# Altium footprint library HyTechDevices.PCBLIB: 209 footprints (part 7 of 14)
Each footprint in its own frame and in the unit in brackets; x right, y up, seen from the top. Pads: shape width x height; smd on the part's side, far side on the other; paste and mask are expansions set on the pad; w line width, h text height; cw(c..) or ccw(c..) is an arc to the next point about the centre after c.
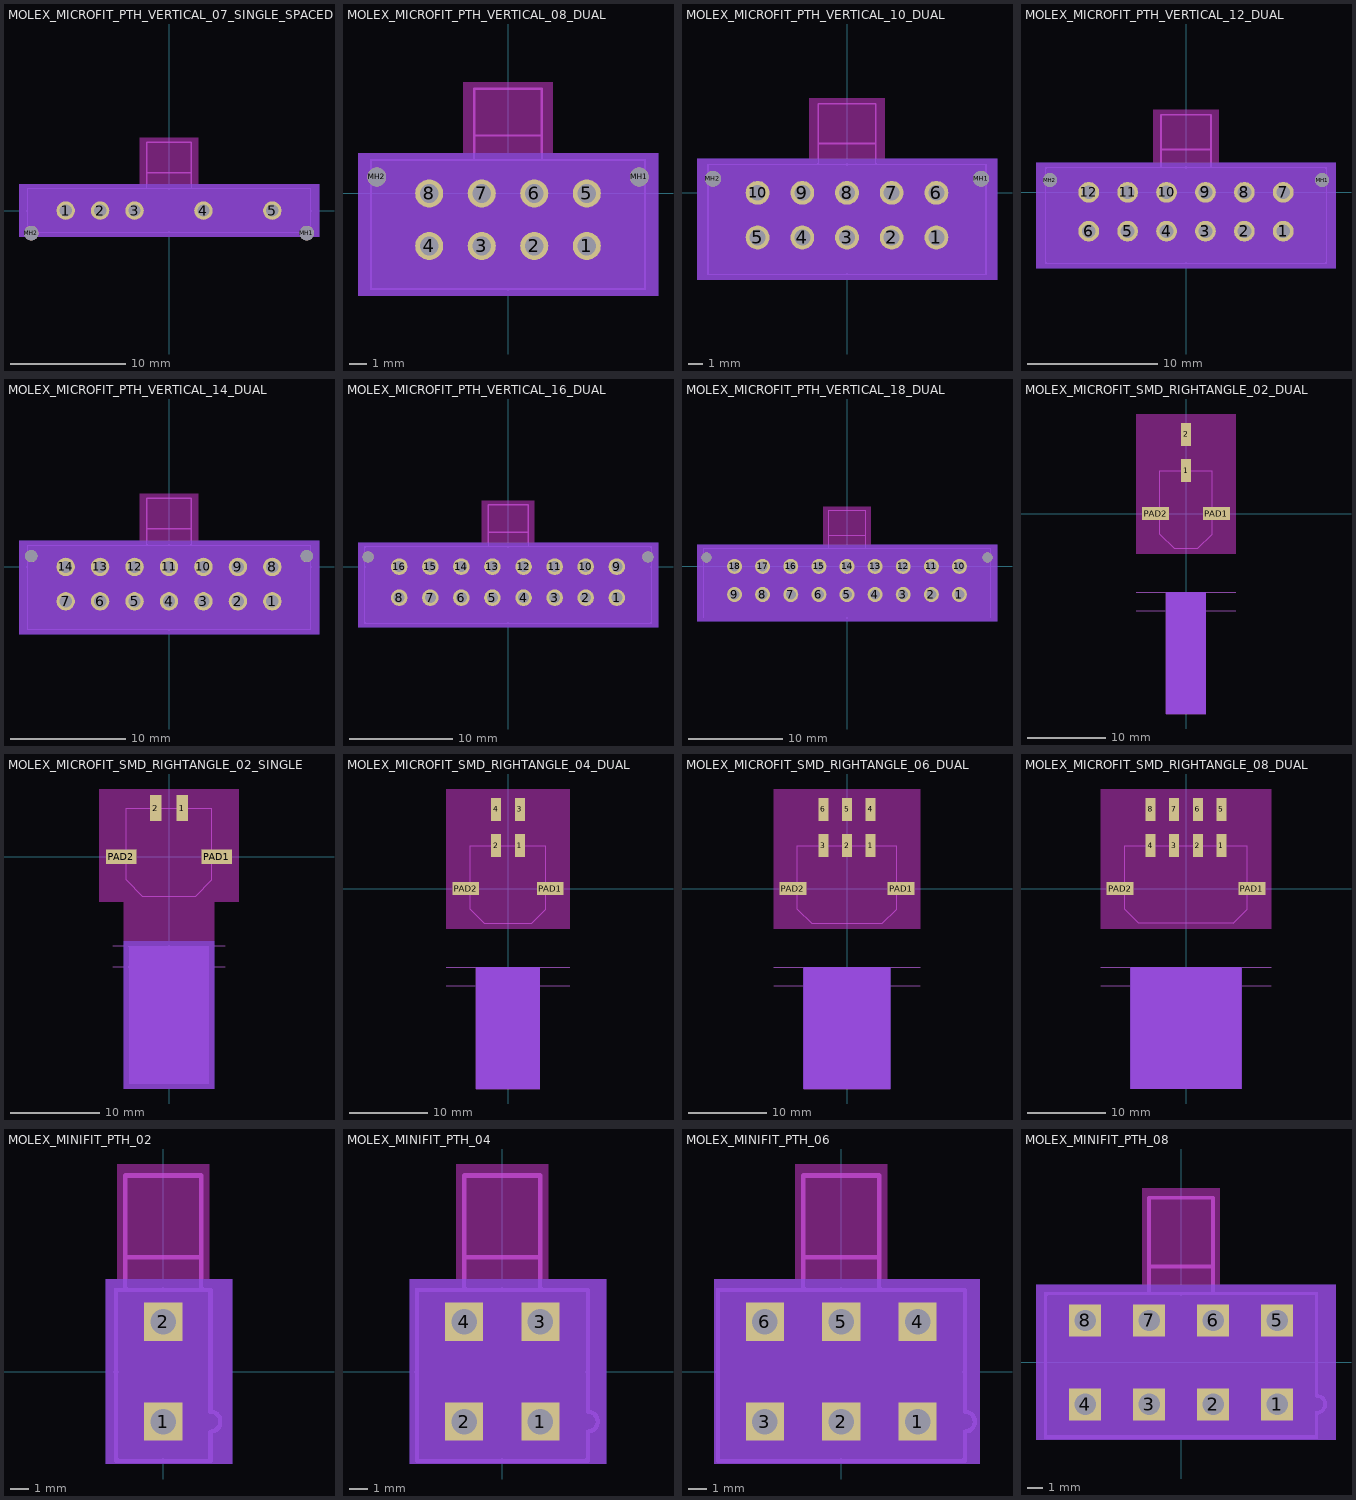
[diagram p6: the footprints below, top view; thin cyan lines are the x and y axes]

## MOLEX_MICROFIT_PTH_VERTICAL_07_SINGLE_SPACED [mil]
pads (7):
  round 63 hole 42: 1(-354,0) 2(-236,0) 3(-118,0) 4(118,0) 5(354,0)
  round 50 hole 50 unplated: MH1(472.5,-77) MH2(-472.5,-77)
Top keep-out:
  region: -100,90 -100,250 100,250 100,90
  region: -514,-90 -514,90 514,90 514,-90
Bottom keep-out:
  region: -514,-90 -514,90 514,90 514,-90
tPlace:
  lines w5: -76,75 -76,130 ; -76,75 -485,75 -485,-75 485,-75 485,75 76,75 ; -76,75 76,75 ; -76,130 -76,235 76,235 76,130 ; -76,130 76,130 ; 76,75 76,130

## MOLEX_MICROFIT_PTH_VERTICAL_08_DUAL [mil]
pads (10):
  round 63 hole 42: 1(177,-118) 2(59,-118) 3(-59,-118) 4(-177,-118) 5(177,0) 6(59,0) 7(-59,0) 8(-177,0)
  round 42 hole 42 unplated: MH1(295,37) MH2(-295,37)
Top keep-out:
  region: -337,-230 -337,90 337,90 337,-230
  region: -100,90 -100,250 100,250 100,90
Bottom keep-out:
  region: -337,-230 -337,90 337,90 337,-230
tPlace:
  lines w5: -76,75 76,75 ; -76,75 -308,75 -308,-215 308,-215 308,75 76,75 ; -76,75 -76,130 ; -76,130 76,130 ; -76,130 -76,235 76,235 76,130 ; 76,75 76,130

## MOLEX_MICROFIT_PTH_VERTICAL_10_DUAL [mil]
pads (12):
  round 63 hole 42: 1(236,-118) 2(118,-118) 3(0,-118) 4(-118,-118) 5(-236,-118) 6(236,0) 7(118,0) 8(0,0) 9(-118,0) 10(-236,0)
  round 42 hole 42 unplated: MH1(354,37) MH2(-354,37)
Top keep-out:
  region: -396,-230 -396,90 396,90 396,-230
  region: -100,90 -100,250 100,250 100,90
Bottom keep-out:
  region: -396,-230 -396,90 396,90 396,-230
tPlace:
  lines w5: -76,75 76,75 ; -76,75 -367,75 -367,-215 367,-215 367,75 76,75 ; -76,75 -76,130 ; -76,130 76,130 ; -76,130 -76,235 76,235 76,130 ; 76,75 76,130

## MOLEX_MICROFIT_PTH_VERTICAL_12_DUAL [mil]
pads (14):
  round 63 hole 42: 1(295,-118) 2(177,-118) 3(59,-118) 4(-59,-118) 5(-177,-118) 6(-295,-118) 7(295,0) 8(177,0) 9(59,0) 10(-59,0) 11(-177,0) 12(-295,0)
  round 42 hole 42 unplated: MH1(413,37) MH2(-413,37)
Top keep-out:
  region: -455,-230 -455,90 455,90 455,-230
  region: -100,90 -100,250 100,250 100,90
Bottom keep-out:
  region: -455,-230 -455,90 455,90 455,-230
tPlace:
  lines w5: -76,75 76,75 ; -76,75 -426,75 -426,-215 426,-215 426,75 76,75 ; -76,75 -76,130 ; -76,130 76,130 ; -76,130 -76,235 76,235 76,130 ; 76,75 76,130

## MOLEX_MICROFIT_PTH_VERTICAL_14_DUAL [mil]
pads (16):
  round 63 hole 42: 1(354,-118) 2(236,-118) 3(118,-118) 4(0,-118) 5(-118,-118) 6(-236,-118) 7(-354,-118) 8(354,0) 9(236,0) 10(118,0) 11(0,0) 12(-118,0) 13(-236,0) 14(-354,0)
  round 42 hole 42 unplated: MH1(472,37) MH2(-472,37)
Top keep-out:
  region: -514,-230 -514,90 514,90 514,-230
  region: -100,90 -100,250 100,250 100,90
Bottom keep-out:
  region: -514,-230 -514,90 514,90 514,-230
tPlace:
  lines w5: -76,75 76,75 ; -76,75 -485,75 -485,-215 485,-215 485,75 76,75 ; -76,75 -76,130 ; -76,130 76,130 ; -76,130 -76,235 76,235 76,130 ; 76,75 76,130

## MOLEX_MICROFIT_PTH_VERTICAL_16_DUAL [mil]
pads (18):
  round 63 hole 42: 1(413.39,-118.11) 2(295.28,-118.11) 3(177.17,-118.11) 4(59.06,-118.11) 5(-59.06,-118.11) 6(-177.17,-118.11) 7(-295.28,-118.11) 8(-413.39,-118.11) 9(413.39,0) 10(295.28,0) 11(177.17,0) 12(59.06,0) 13(-59.06,0) 14(-177.17,0) 15(-295.28,0) 16(-413.39,0)
  round 42 hole 42 unplated: MH1(531.5,37.01) MH2(-531.5,37.01)
Top keep-out:
  region: -100,90 -100,250 100,250 100,90
  region: -570,-230 -570,90 570,90 570,-230
Bottom keep-out:
  region: -570,-230 -570,90 570,90 570,-230
tPlace:
  lines w5: -76,75 76,75 ; -76,75 -544.06,75 -544.06,-215 544.06,-215 544.06,75 76,75 ; -76,75 -76,130 ; -76,130 76,130 ; -76,130 -76,235 76,235 76,130 ; 76,75 76,130

## MOLEX_MICROFIT_PTH_VERTICAL_18_DUAL [mil]
pads (20):
  round 63 hole 42: 1(472.44,-118.11) 2(354.33,-118.11) 3(236.22,-118.11) 4(118.11,-118.11) 5(0,-118.11) 6(-118.11,-118.11) 7(-236.22,-118.11) 8(-354.33,-118.11) 9(-472.44,-118.11) 10(472.44,0) 11(354.33,0) 12(236.22,0) 13(118.11,0) 14(0,0) 15(-118.11,0) 16(-236.22,0) 17(-354.33,0) 18(-472.44,0)
  round 42 hole 42 unplated: MH1(590.55,37.01) MH2(-590.55,37.01)
Top keep-out:
  region: -100,90 -100,250 100,250 100,90
  region: -630,-230 -630,90 630,90 630,-230
Bottom keep-out:
  region: -630,-230 -630,90 630,90 630,-230
tPlace:
  lines w5: -76,75 76,75 ; -76,75 -603.11,75 -603.11,-215 603.11,-215 603.11,75 76,75 ; -76,75 -76,130 ; -76,130 76,130 ; -76,130 -76,235 76,235 76,130 ; 76,75 76,130

## MOLEX_MICROFIT_SMD_RIGHTANGLE_02_DUAL [mil]
pads (4):
  rect 50x115 smd: 1(0,215.5) 2(0,397.5)
  rect 135x65 smd: PAD1(153,0) PAD2(-153,0)
Top keep-out:
  region: -100,-1005 -100,-395 100,-395 100,-1005
  region: 85.5,71 85.5,134 181.5,134 181.5,71
  region: -181.5,71 -181.5,134 -85.5,134 -85.5,71
  region: -250,-200 -250,500 250,500 250,-200
  region: -181.5,71 -181.5,134 -85.5,134 -85.5,71
  region: 85.5,71 85.5,134 181.5,134 181.5,71
Bottom keep-out:
  region: -100,-1005 -100,-395 100,-395 100,-1005
Dimension:
  region: 100,-1005 -100,-1005 -100,-395 100,-395
Milling:
  lines w0: -100,-1005 -100,-395 100,-395 100,-1005 -100,-1005
tDocu:
  lines w5: -250,-487 250,-487 ; -250,-395 250,-395
tPlace:
  lines w5: -131,-102.5 -59,-174.5 59,-174.5 131,-102.5 131,215.5 -131,215.5 -131,-102.5

## MOLEX_MICROFIT_SMD_RIGHTANGLE_02_SINGLE [mil]
pads (4):
  rect 50x115 smd: 1(59,215.5) 2(-59,215.5)
  rect 135x65 smd: PAD1(211.5,0) PAD2(-211.5,0)
Top keep-out:
  region: 124,71 124,134 220,134 220,71
  region: -220,71 -220,134 -124,134 -124,71
  region: -309,-200 -309,300 309,300 309,-200
  region: -220,71 -220,134 -124,134 -124,71
  region: 124,71 124,134 220,134 220,71
  region: -200,-1030 -200,-200 200,-200 200,-1030
Bottom keep-out:
  region: -200,-1030 -200,-375 200,-375 200,-1030
Dimension:
  region: 176,-1005 -176,-1005 -176,-395 176,-395
Milling:
  lines w0: -176,-1005 176,-1005 176,-395 -176,-395 -176,-1005
tDocu:
  lines w5: -250,-487 250,-487 ; -250,-395 250,-395
tPlace:
  lines w5: -190,-102.5 -190,215.5 190,215.5 190,-102.5 118,-174.5 -118,-174.5 -190,-102.5

## MOLEX_MICROFIT_SMD_RIGHTANGLE_04_DUAL [mil]
pads (6):
  rect 50x115 smd: 1(59.06,215.5) 2(-59.06,215.5) 3(59.06,397.5) 4(-59.06,397.5)
  rect 135x65 smd: PAD1(212.06,0) PAD2(-212.06,0)
Top keep-out:
  region: 144.56,71 144.56,134 240.56,134 240.56,71
  region: -240.56,71 -240.56,134 -144.56,134 -144.56,71
  region: -309.06,-200 -309.06,500 309.06,500 309.06,-200
  region: -240.56,71 -240.56,134 -144.56,134 -144.56,71
  region: 144.56,71 144.56,134 240.56,134 240.56,71
Bottom keep-out:
  region: -159.06,-1005 -159.06,-395 159.06,-395 159.06,-1005
Dimension:
  region: 159.06,-1005 -159.06,-1005 -159.06,-395 159.06,-395
Milling:
  lines w0: -159.06,-1005 159.06,-1005 159.06,-395 -159.06,-395 -159.06,-1005
tDocu:
  lines w5: -309.06,-487 309.06,-487 ; -309.06,-395 309.06,-395
tPlace:
  lines w5: -190.06,-102.5 -190.06,215.5 190.06,215.5 190.06,-102.5 118.06,-174.5 -118.06,-174.5 -190.06,-102.5
3D body "43045-0411.stp": height 345.16, standoff -0.12, extent -273.7,-180.08 263.7,426.13

## MOLEX_MICROFIT_SMD_RIGHTANGLE_06_DUAL [mil]
pads (8):
  rect 50x115 smd: 1(118.11,215.5) 2(0,215.5) 3(-118.11,215.5) 4(118.11,397.5) 5(0,397.5) 6(-118.11,397.5)
  rect 135x65 smd: PAD1(271.11,0) PAD2(-271.11,0)
Top keep-out:
  region: 203.61,71 203.61,134 299.61,134 299.61,71
  region: -299.61,71 -299.61,134 -203.61,134 -203.61,71
  region: -368.11,-200 -368.11,500 368.11,500 368.11,-200
  region: -299.61,71 -299.61,134 -203.61,134 -203.61,71
  region: 203.61,71 203.61,134 299.61,134 299.61,71
Bottom keep-out:
  region: -218.11,-1005 -218.11,-395 218.11,-395 218.11,-1005
Dimension:
  region: 218.11,-1005 -218.11,-1005 -218.11,-395 218.11,-395
Milling:
  lines w0: -218.11,-1005 -218.11,-395 218.11,-395 218.11,-1005 -218.11,-1005
tDocu:
  lines w5: -368.11,-487 368.11,-487 ; -368.11,-395 368.11,-395
tPlace:
  lines w5: -249.11,-102.5 -177.11,-174.5 177.11,-174.5 249.11,-102.5 249.11,215.5 -249.11,215.5 -249.11,-102.5

## MOLEX_MICROFIT_SMD_RIGHTANGLE_08_DUAL [mil]
pads (10):
  rect 50x115 smd: 1(177.17,215.5) 2(59.06,215.5) 3(-59.06,215.5) 4(-177.17,215.5) 5(177.17,397.5) 6(59.06,397.5) 7(-59.06,397.5) 8(-177.17,397.5)
  rect 135x65 smd: PAD1(330.17,0) PAD2(-330.17,0)
Top keep-out:
  region: 262.67,71 262.67,134 358.67,134 358.67,71
  region: -358.67,71 -358.67,134 -262.67,134 -262.67,71
  region: -427.17,-200 -427.17,500 427.17,500 427.17,-200
  region: -358.67,71 -358.67,134 -262.67,134 -262.67,71
  region: 262.67,71 262.67,134 358.67,134 358.67,71
Bottom keep-out:
  region: -277.17,-1005 -277.17,-395 277.17,-395 277.17,-1005
Dimension:
  region: 277.17,-1005 -277.17,-1005 -277.17,-395 277.17,-395
Milling:
  lines w0: -277.17,-1005 277.17,-1005 277.17,-395 -277.17,-395 -277.17,-1005
tDocu:
  lines w5: -427.17,-487 427.17,-487 ; -427.17,-395 427.17,-395
tPlace:
  lines w5: -308.17,-102.5 -308.17,215.5 308.17,215.5 308.17,-102.5 236.17,-174.5 -236.17,-174.5 -308.17,-102.5

## MOLEX_MINIFIT_PTH_02 [mil]
pads (2):
  rect 82.68x82.68 / inner round 76.39 / far side rect 82.68x82.68 hole 55.12: 1(0,-108.27) 2(0,108.27)
Top keep-out:
  region: -125,-200 -125,200 150,200 150,-200
  region: -100,200 -100,450 100,450 100,200
Bottom keep-out:
  region: -125,-200 -125,200 150,200 150,-200
tPlace:
  lines w10: -82.68,181.1 -82.68,248.03 ; 82.68,181.1 82.68,248.03 ; -82.68,248.03 82.68,248.03 ; -82.68,248.03 -82.68,425.17 82.68,425.17 82.68,248.03 ; -102.36,-192.91 102.36,-192.91 102.36,-129.92 ccw(c102.36,-108.27) 102.36,-86.61 102.36,177.17 -102.36,177.17 -102.36,-192.91

## MOLEX_MINIFIT_PTH_04 [mil]
pads (4):
  rect 82.68x82.68 / inner round 76.39 / far side rect 82.68x82.68 hole 55.12: 1(82.68,-108.27) 2(-82.68,-108.27) 3(82.68,108.27) 4(-82.68,108.27)
Top keep-out:
  region: -100,200 -100,450 100,450 100,200
  region: -200,-200 -200,200 225,200 225,-200
Bottom keep-out:
  region: -200,-200 -200,200 225,200 225,-200
tPlace:
  lines w10: -82.68,181.1 -82.68,248.03 ; 82.68,181.1 82.68,248.03 ; -82.68,248.03 82.68,248.03 ; -82.68,248.03 -82.68,425.17 82.68,425.17 82.68,248.03 ; -185.04,-192.91 185.04,-192.91 185.04,-129.92 ccw(c185.04,-108.27) 185.04,-86.61 185.04,177.17 -185.04,177.17 -185.04,-192.91

## MOLEX_MINIFIT_PTH_06 [mil]
pads (6):
  rect 82.68x82.68 / inner round 76.39 / far side rect 82.68x82.68 hole 55.12: 1(165.35,-108.27) 2(0,-108.27) 3(-165.35,-108.27) 4(165.35,108.27) 5(0,108.27) 6(-165.35,108.27)
Top keep-out:
  region: -100,200 -100,450 100,450 100,200
  region: -275,-200 -275,200 300,200 300,-200
Bottom keep-out:
  region: -275,-200 -275,200 300,200 300,-200
tPlace:
  lines w10: -82.68,181.1 -82.68,248.03 ; 82.68,181.1 82.68,248.03 ; -82.68,248.03 82.68,248.03 ; -82.68,248.03 -82.68,425.17 82.68,425.17 82.68,248.03 ; -267.72,-192.91 267.72,-192.91 267.72,-129.92 ccw(c267.72,-108.27) 267.72,-86.61 267.72,177.17 -267.72,177.17 -267.72,-192.91

## MOLEX_MINIFIT_PTH_08 [mil]
pads (8):
  rect 82.68x82.68 / inner round 76.39 / far side rect 82.68x82.68 hole 55.12: 1(248.03,-108.27) 2(82.68,-108.27) 3(-82.68,-108.27) 4(-248.03,-108.27) 5(248.03,108.27) 6(82.68,108.27) 7(-82.68,108.27) 8(-248.03,108.27)
Top keep-out:
  region: -100,200 -100,450 100,450 100,200
  region: -375,-200 -375,200 400,200 400,-200
Bottom keep-out:
  region: -375,-200 -375,200 400,200 400,-200
tPlace:
  lines w10: -82.68,181.1 -82.68,248.03 ; 82.68,181.1 82.68,248.03 ; -82.68,248.03 82.68,248.03 ; -82.68,248.03 -82.68,425.17 82.68,425.17 82.68,248.03 ; -350.39,-192.91 350.39,-192.91 350.39,-129.92 ccw(c350.39,-108.27) 350.39,-86.61 350.39,177.17 -350.39,177.17 -350.39,-192.91